# Altium integrated library Inductor 22uH.IntLib: 360 symbols (part 7 of 7)
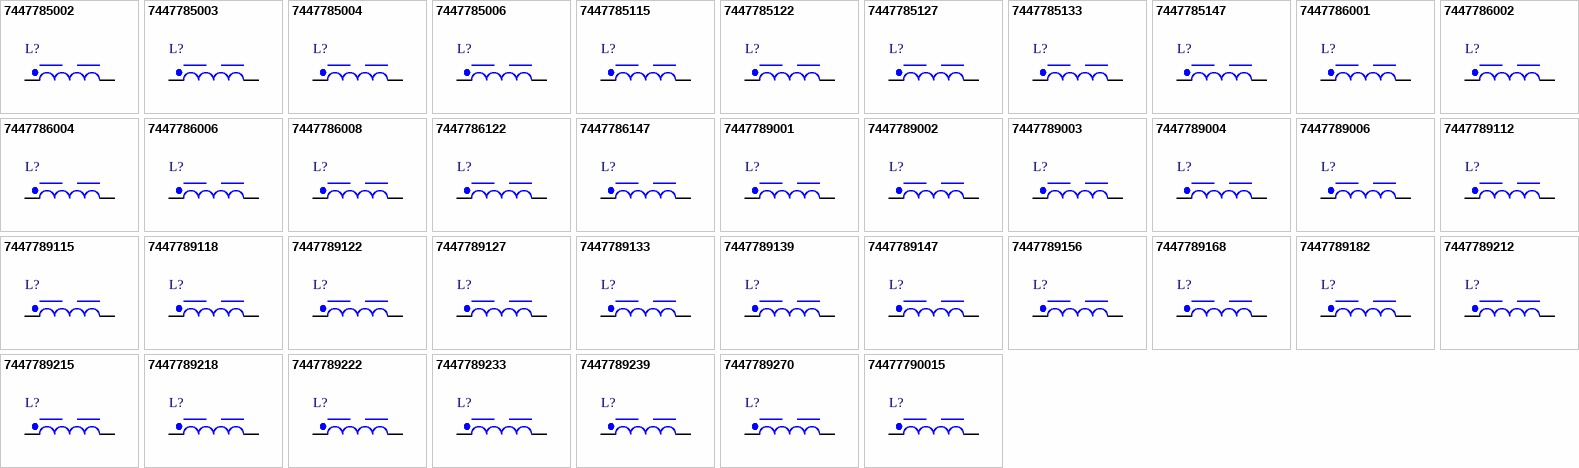
[diagram p14: symbols 7447785002 to 74477790015]

## 7447785147
designator L?, comment 47 μH, 0.85 A  (value not drawn)
WE-PD SMT Power Inductor, size 6033R, 47 μH, 0.85 A, 600 mΩ; Manufacturer Part Number: 7447785147; Manufacturer: Wurth Elektronik; DC Resistance: 500 mΩ; DC Resistance Max: 600 mΩ; Inductance: 47 μH; Rated Current: 0.85 A; Saturation Current: 0.74 A; Self Resonant Frequency: 16.5 MHz; Type: Robust; Category: Power Inductors; Match Code: WE-PD; ComponentLink1Description: Website Link; ComponentLink1URL: https://www.we-online.com/redexpert/article/7447785147?ad; ComponentLink2Description: Datasheet Link; ComponentLink2URL: https://www.we-online.com/redexpert/spec/7447785147?ad; Mount: Surface Mount; Min Operating Temperature: -40 °C; Max Operating Temperature: 125 °C; Packaging: Tape and Reel; Case/Size Code: 6033R; Length: 5.9 mm; Width: 6.2 mm; Height: 3.3 mm
footprint WE-PD_6033R
simulation model 6033_7447785147_47u
pins: 1, 2

## 7447786001
designator L?, comment 1 μH, 5 A  (value not drawn)
WE-PD SMT Power Inductor, size 6050R, 1 μH, 5 A, 34 mΩ; Manufacturer Part Number: 7447786001; Manufacturer: Wurth Elektronik; DC Resistance: 28 mΩ; DC Resistance Max: 34 mΩ; Inductance: 1 μH; Rated Current: 5 A; Saturation Current: 5.5 A; Self Resonant Frequency: 180 MHz; Type: Robust; Category: Power Inductors; Match Code: WE-PD; ComponentLink1Description: Website Link; ComponentLink1URL: https://www.we-online.com/redexpert/article/7447786001?ad; ComponentLink2Description: Datasheet Link; ComponentLink2URL: https://www.we-online.com/redexpert/spec/7447786001?ad; Mount: Surface Mount; Min Operating Temperature: -40 °C; Max Operating Temperature: 125 °C; Packaging: Tape and Reel; Case/Size Code: 6050R; Length: 5.9 mm; Width: 6.2 mm; Height: 5.1 mm
footprint WE-PD_6050R
simulation model 6050_7447786001_1u
pins: 1, 2

## 7447786002
designator L?, comment 2.2 μH, 3.5 A  (value not drawn)
WE-PD SMT Power Inductor, size 6050R, 2.2 μH, 3.5 A, 49 mΩ; Manufacturer Part Number: 7447786002; Manufacturer: Wurth Elektronik; DC Resistance: 40 mΩ; DC Resistance Max: 49 mΩ; Inductance: 2.2 μH; Rated Current: 3.5 A; Saturation Current: 4 A; Self Resonant Frequency: 115 MHz; Type: Robust; Category: Power Inductors; Match Code: WE-PD; ComponentLink1Description: Website Link; ComponentLink1URL: https://www.we-online.com/redexpert/article/7447786002?ad; ComponentLink2Description: Datasheet Link; ComponentLink2URL: https://www.we-online.com/redexpert/spec/7447786002?ad; Mount: Surface Mount; Min Operating Temperature: -40 °C; Max Operating Temperature: 125 °C; Packaging: Tape and Reel; Case/Size Code: 6050R; Length: 5.9 mm; Width: 6.2 mm; Height: 5.1 mm
footprint WE-PD_6050R
simulation model 6050_7447786002_2.2u
pins: 1, 2

## 7447786004
designator L?, comment 4.7 μH, 2.8 A  (value not drawn)
WE-PD SMT Power Inductor, size 6050R, 4.7 μH, 2.8 A, 65 mΩ; Manufacturer Part Number: 7447786004; Manufacturer: Wurth Elektronik; DC Resistance: 57 mΩ; DC Resistance Max: 65 mΩ; Inductance: 4.7 μH; Rated Current: 2.8 A; Self Resonant Frequency: 60 MHz; Type: Robust; Category: Power Inductors; Match Code: WE-PD; ComponentLink1Description: Website Link; ComponentLink1URL: https://www.we-online.com/redexpert/article/7447786004?ad; ComponentLink2Description: Datasheet Link; ComponentLink2URL: https://www.we-online.com/redexpert/spec/7447786004?ad; Mount: Surface Mount; Min Operating Temperature: -40 °C; Max Operating Temperature: 125 °C; Packaging: Tape and Reel; Case/Size Code: 6050R; Length: 5.9 mm; Width: 6.2 mm; Height: 5.1 mm; Saturation Current: 2.8 A
footprint WE-PD_6050R
simulation model 6050_7447786004_4.7u
pins: 1, 2

## 7447786006
designator L?, comment 6.8 μH, 2.5 A  (value not drawn)
WE-PD SMT Power Inductor, size 6050R, 6.8 μH, 2.5 A, 75 mΩ; Manufacturer Part Number: 7447786006; Manufacturer: Wurth Elektronik; DC Resistance: 62 mΩ; DC Resistance Max: 75 mΩ; Inductance: 6.8 μH; Rated Current: 2.5 A; Saturation Current: 2.3 A; Self Resonant Frequency: 43 MHz; Type: Robust; Category: Power Inductors; Match Code: WE-PD; ComponentLink1Description: Website Link; ComponentLink1URL: https://www.we-online.com/redexpert/article/7447786006?ad; ComponentLink2Description: Datasheet Link; ComponentLink2URL: https://www.we-online.com/redexpert/spec/7447786006?ad; Mount: Surface Mount; Min Operating Temperature: -40 °C; Max Operating Temperature: 125 °C; Packaging: Tape and Reel; Case/Size Code: 6050R; Length: 5.9 mm; Width: 6.2 mm; Height: 5.1 mm
footprint WE-PD_6050R
simulation model 6050_7447786006_6.8u
pins: 1, 2

## 7447786008
designator L?, comment 8.2 μH, 2.3 A  (value not drawn)
WE-PD SMT Power Inductor, size 6050R, 8.2 μH, 2.3 A, 80 mΩ; Manufacturer Part Number: 7447786008; Manufacturer: Wurth Elektronik; DC Resistance: 66 mΩ; DC Resistance Max: 80 mΩ; Inductance: 8.2 μH; Rated Current: 2.3 A; Saturation Current: 2.1 A; Self Resonant Frequency: 40 MHz; Type: Robust; Category: Power Inductors; Match Code: WE-PD; ComponentLink1Description: Website Link; ComponentLink1URL: https://www.we-online.com/redexpert/article/7447786008?ad; ComponentLink2Description: Datasheet Link; ComponentLink2URL: https://www.we-online.com/redexpert/spec/7447786008?ad; Mount: Surface Mount; Min Operating Temperature: -40 °C; Max Operating Temperature: 125 °C; Packaging: Tape and Reel; Case/Size Code: 6050R; Length: 5.9 mm; Width: 6.2 mm; Height: 5.1 mm
footprint WE-PD_6050R
simulation model 6050_7447786008_8.2u
pins: 1, 2

## 7447786122
designator L?, comment 22 μH, 2 A  (value not drawn)
WE-PD SMT Power Inductor, size 6050R, 22 μH, 2 A, 115 mΩ; Manufacturer Part Number: 7447786122; Manufacturer: Wurth Elektronik; DC Resistance: 98 mΩ; DC Resistance Max: 115 mΩ; Inductance: 22 μH; Rated Current: 2 A; Saturation Current: 1.3 A; Self Resonant Frequency: 15 MHz; Type: Robust; Category: Power Inductors; Match Code: WE-PD; ComponentLink1Description: Website Link; ComponentLink1URL: https://www.we-online.com/redexpert/article/7447786122?ad; ComponentLink2Description: Datasheet Link; ComponentLink2URL: https://www.we-online.com/redexpert/spec/7447786122?ad; Mount: Surface Mount; Min Operating Temperature: -40 °C; Max Operating Temperature: 125 °C; Packaging: Tape and Reel; Case/Size Code: 6050R; Length: 5.9 mm; Width: 6.2 mm; Height: 5.1 mm
footprint WE-PD_6050R
simulation model 6050_7447786122_22u
pins: 1, 2

## 7447786147
designator L?, comment 47 μH, 1.4 A  (value not drawn)
WE-PD SMT Power Inductor, size 6050R, 47 μH, 1.4 A, 295 mΩ; Manufacturer Part Number: 7447786147; Manufacturer: Wurth Elektronik; DC Resistance: 260 mΩ; DC Resistance Max: 295 mΩ; Inductance: 47 μH; Rated Current: 1.4 A; Saturation Current: 0.8 A; Self Resonant Frequency: 10 MHz; Type: Robust; Category: Power Inductors; Match Code: WE-PD; ComponentLink1Description: Website Link; ComponentLink1URL: https://www.we-online.com/redexpert/article/7447786147?ad; ComponentLink2Description: Datasheet Link; ComponentLink2URL: https://www.we-online.com/redexpert/spec/7447786147?ad; Mount: Surface Mount; Min Operating Temperature: -40 °C; Max Operating Temperature: 125 °C; Packaging: Tape and Reel; Case/Size Code: 6050R; Length: 5.9 mm; Width: 6.2 mm; Height: 5.1 mm
footprint WE-PD_6050R
simulation model 6050_7447786147_47u
pins: 1, 2

## 7447789001
designator L?, comment 1 μH, 5.37 A  (value not drawn)
WE-PD SMT Power Inductor, size 7332R, 1 μH, 5.37 A, 12 mΩ; Manufacturer Part Number: 7447789001; Manufacturer: Wurth Elektronik; DC Resistance: 10 mΩ; DC Resistance Max: 12 mΩ; Inductance: 1 μH; Rated Current: 5.37 A; Saturation Current: 6.4 A; Self Resonant Frequency: 115 MHz; Type: Robust; Category: Power Inductors; Match Code: WE-PD; ComponentLink1Description: Website Link; ComponentLink1URL: https://www.we-online.com/redexpert/article/7447789001?ad; ComponentLink2Description: Datasheet Link; ComponentLink2URL: https://www.we-online.com/redexpert/spec/7447789001?ad; Mount: Surface Mount; Min Operating Temperature: -40 °C; Max Operating Temperature: 125 °C; Packaging: Tape and Reel; Case/Size Code: 7332R; Length: 7.3 mm; Width: 7.3 mm; Height: 3.2 mm
footprint WE-PD_7332R
simulation model 7332_7447789001_1u
pins: 1, 2

## 7447789002
designator L?, comment 2.2 μH, 4.02 A  (value not drawn)
WE-PD SMT Power Inductor, size 7332R, 2.2 μH, 4.02 A, 25 mΩ; Manufacturer Part Number: 7447789002; Manufacturer: Wurth Elektronik; DC Resistance: 20 mΩ; DC Resistance Max: 25 mΩ; Inductance: 2.2 μH; Rated Current: 4.02 A; Saturation Current: 4.8 A; Self Resonant Frequency: 67 MHz; Type: Robust; Category: Power Inductors; Match Code: WE-PD; ComponentLink1Description: Website Link; ComponentLink1URL: https://www.we-online.com/redexpert/article/7447789002?ad; ComponentLink2Description: Datasheet Link; ComponentLink2URL: https://www.we-online.com/redexpert/spec/7447789002?ad; Mount: Surface Mount; Min Operating Temperature: -40 °C; Max Operating Temperature: 125 °C; Packaging: Tape and Reel; Case/Size Code: 7332R; Length: 7.3 mm; Width: 7.3 mm; Height: 3.2 mm
footprint WE-PD_7332R
simulation model 7332_7447789002_2.2u
pins: 1, 2

## 7447789003
designator L?, comment 3.3 μH, 3.42 A  (value not drawn)
WE-PD SMT Power Inductor, size 7332R, 3.3 μH, 3.42 A, 30 mΩ; Manufacturer Part Number: 7447789003; Manufacturer: Wurth Elektronik; DC Resistance: 24 mΩ; DC Resistance Max: 30 mΩ; Inductance: 3.3 μH; Rated Current: 3.42 A; Saturation Current: 4.2 A; Self Resonant Frequency: 61 MHz; Type: Robust; Category: Power Inductors; Match Code: WE-PD; ComponentLink1Description: Website Link; ComponentLink1URL: https://www.we-online.com/redexpert/article/7447789003?ad; ComponentLink2Description: Datasheet Link; ComponentLink2URL: https://www.we-online.com/redexpert/spec/7447789003?ad; Mount: Surface Mount; Min Operating Temperature: -40 °C; Max Operating Temperature: 125 °C; Packaging: Tape and Reel; Case/Size Code: 7332R; Length: 7.3 mm; Width: 7.3 mm; Height: 3.2 mm
footprint WE-PD_7332R
simulation model 7332_7447789003_3.3u
pins: 1, 2

## 7447789004
designator L?, comment 4.7 μH, 2.9 A  (value not drawn)
WE-PD SMT Power Inductor, size 7332R, 4.7 μH, 2.9 A, 39 mΩ; Manufacturer Part Number: 7447789004; Manufacturer: Wurth Elektronik; DC Resistance: 33 mΩ; DC Resistance Max: 39 mΩ; Inductance: 4.7 μH; Rated Current: 2.9 A; Saturation Current: 3.9 A; Self Resonant Frequency: 45 MHz; Type: Robust; Category: Power Inductors; Match Code: WE-PD; ComponentLink1Description: Website Link; ComponentLink1URL: https://www.we-online.com/redexpert/article/7447789004?ad; ComponentLink2Description: Datasheet Link; ComponentLink2URL: https://www.we-online.com/redexpert/spec/7447789004?ad; Mount: Surface Mount; Min Operating Temperature: -40 °C; Max Operating Temperature: 125 °C; Packaging: Tape and Reel; Case/Size Code: 7332R; Length: 7.3 mm; Width: 7.3 mm; Height: 3.2 mm
footprint WE-PD_7332R
simulation model 7332_7447789004_4.7u
pins: 1, 2

## 7447789006
designator L?, comment 6.8 μH, 2.5 A  (value not drawn)
WE-PD SMT Power Inductor, size 7332R, 6.8 μH, 2.5 A, 50 mΩ; Manufacturer Part Number: 7447789006; Manufacturer: Wurth Elektronik; DC Resistance: 42 mΩ; DC Resistance Max: 50 mΩ; Inductance: 6.8 μH; Rated Current: 2.5 A; Saturation Current: 2.75 A; Self Resonant Frequency: 38 MHz; Type: Robust; Category: Power Inductors; Match Code: WE-PD; ComponentLink1Description: Website Link; ComponentLink1URL: https://www.we-online.com/redexpert/article/7447789006?ad; ComponentLink2Description: Datasheet Link; ComponentLink2URL: https://www.we-online.com/redexpert/spec/7447789006?ad; Mount: Surface Mount; Min Operating Temperature: -40 °C; Max Operating Temperature: 125 °C; Packaging: Tape and Reel; Case/Size Code: 7332R; Length: 7.3 mm; Width: 7.3 mm; Height: 3.2 mm
footprint WE-PD_7332R
simulation model 7332_7447789006_6.8u
pins: 1, 2

## 7447789112
designator L?, comment 12 μH, 1.73 A  (value not drawn)
WE-PD SMT Power Inductor, size 7332R, 12 μH, 1.73 A, 98 mΩ; Manufacturer Part Number: 7447789112; Manufacturer: Wurth Elektronik; DC Resistance: 76 mΩ; DC Resistance Max: 98 mΩ; Inductance: 12 μH; Rated Current: 1.73 A; Saturation Current: 1.9 A; Self Resonant Frequency: 27 MHz; Type: Robust; Category: Power Inductors; Match Code: WE-PD; ComponentLink1Description: Website Link; ComponentLink1URL: https://www.we-online.com/redexpert/article/7447789112?ad; ComponentLink2Description: Datasheet Link; ComponentLink2URL: https://www.we-online.com/redexpert/spec/7447789112?ad; Mount: Surface Mount; Min Operating Temperature: -40 °C; Max Operating Temperature: 125 °C; Packaging: Tape and Reel; Case/Size Code: 7332R; Length: 7.3 mm; Width: 7.3 mm; Height: 3.2 mm
footprint WE-PD_7332R
simulation model 7332_7447789112_12u
pins: 1, 2

## 7447789115
designator L?, comment 15 μH, 1.51 A  (value not drawn)
WE-PD SMT Power Inductor, size 7332R, 15 μH, 1.51 A, 130 mΩ; Manufacturer Part Number: 7447789115; Manufacturer: Wurth Elektronik; DC Resistance: 100 mΩ; DC Resistance Max: 130 mΩ; Inductance: 15 μH; Rated Current: 1.51 A; Saturation Current: 1.75 A; Self Resonant Frequency: 26 MHz; Type: Robust; Category: Power Inductors; Match Code: WE-PD; ComponentLink1Description: Website Link; ComponentLink1URL: https://www.we-online.com/redexpert/article/7447789115?ad; ComponentLink2Description: Datasheet Link; ComponentLink2URL: https://www.we-online.com/redexpert/spec/7447789115?ad; Mount: Surface Mount; Min Operating Temperature: -40 °C; Max Operating Temperature: 125 °C; Packaging: Tape and Reel; Case/Size Code: 7332R; Length: 7.3 mm; Width: 7.3 mm; Height: 3.2 mm
footprint WE-PD_7332R
simulation model 7332_7447789115_15u
pins: 1, 2

## 7447789118
designator L?, comment 18 μH, 1.41 A  (value not drawn)
WE-PD SMT Power Inductor, size 7332R, 18 μH, 1.41 A, 140 mΩ; Manufacturer Part Number: 7447789118; Manufacturer: Wurth Elektronik; DC Resistance: 114 mΩ; DC Resistance Max: 140 mΩ; Inductance: 18 μH; Rated Current: 1.41 A; Saturation Current: 1.7 A; Self Resonant Frequency: 24 MHz; Type: Robust; Category: Power Inductors; Match Code: WE-PD; ComponentLink1Description: Website Link; ComponentLink1URL: https://www.we-online.com/redexpert/article/7447789118?ad; ComponentLink2Description: Datasheet Link; ComponentLink2URL: https://www.we-online.com/redexpert/spec/7447789118?ad; Mount: Surface Mount; Min Operating Temperature: -40 °C; Max Operating Temperature: 125 °C; Packaging: Tape and Reel; Case/Size Code: 7332R; Length: 7.3 mm; Width: 7.3 mm; Height: 3.2 mm
footprint WE-PD_7332R
simulation model 7332_7447789118_18u
pins: 1, 2

## 7447789122
designator L?, comment 22 μH, 1.38 A  (value not drawn)
WE-PD SMT Power Inductor, size 7332R, 22 μH, 1.38 A, 190 mΩ; Manufacturer Part Number: 7447789122; Manufacturer: Wurth Elektronik; DC Resistance: 119 mΩ; DC Resistance Max: 190 mΩ; Inductance: 22 μH; Rated Current: 1.38 A; Saturation Current: 1.4 A; Self Resonant Frequency: 20 MHz; Type: Robust; Category: Power Inductors; Match Code: WE-PD; ComponentLink1Description: Website Link; ComponentLink1URL: https://www.we-online.com/redexpert/article/7447789122?ad; ComponentLink2Description: Datasheet Link; ComponentLink2URL: https://www.we-online.com/redexpert/spec/7447789122?ad; Mount: Surface Mount; Min Operating Temperature: -40 °C; Max Operating Temperature: 125 °C; Packaging: Tape and Reel; Case/Size Code: 7332R; Length: 7.3 mm; Width: 7.3 mm; Height: 3.2 mm
footprint WE-PD_7332R
simulation model 7332_7447789122_22u
pins: 1, 2

## 7447789127
designator L?, comment 27 μH, 1.27 A  (value not drawn)
WE-PD SMT Power Inductor, size 7332R, 27 μH, 1.27 A, 210 mΩ; Manufacturer Part Number: 7447789127; Manufacturer: Wurth Elektronik; DC Resistance: 130 mΩ; DC Resistance Max: 210 mΩ; Inductance: 27 μH; Rated Current: 1.27 A; Saturation Current: 1.35 A; Self Resonant Frequency: 18 MHz; Type: Robust; Category: Power Inductors; Match Code: WE-PD; ComponentLink1Description: Website Link; ComponentLink1URL: https://www.we-online.com/redexpert/article/7447789127?ad; ComponentLink2Description: Datasheet Link; ComponentLink2URL: https://www.we-online.com/redexpert/spec/7447789127?ad; Mount: Surface Mount; Min Operating Temperature: -40 °C; Max Operating Temperature: 125 °C; Packaging: Tape and Reel; Case/Size Code: 7332R; Length: 7.3 mm; Width: 7.3 mm; Height: 3.2 mm
footprint WE-PD_7332R
simulation model 7332_7447789127_27u
pins: 1, 2

## 7447789133
designator L?, comment 33 μH, 1.22 A  (value not drawn)
WE-PD SMT Power Inductor, size 7332R, 33 μH, 1.22 A, 240 mΩ; Manufacturer Part Number: 7447789133; Manufacturer: Wurth Elektronik; DC Resistance: 153 mΩ; DC Resistance Max: 240 mΩ; Inductance: 33 μH; Rated Current: 1.22 A; Saturation Current: 1.15 A; Self Resonant Frequency: 16 MHz; Type: Robust; Category: Power Inductors; Match Code: WE-PD; ComponentLink1Description: Website Link; ComponentLink1URL: https://www.we-online.com/redexpert/article/7447789133?ad; ComponentLink2Description: Datasheet Link; ComponentLink2URL: https://www.we-online.com/redexpert/spec/7447789133?ad; Mount: Surface Mount; Min Operating Temperature: -40 °C; Max Operating Temperature: 125 °C; Packaging: Tape and Reel; Case/Size Code: 7332R; Length: 7.3 mm; Width: 7.3 mm; Height: 3.2 mm
footprint WE-PD_7332R
simulation model 7332_7447789133_33u
pins: 1, 2

## 7447789139
designator L?, comment 39 μH, 1.03 A  (value not drawn)
WE-PD SMT Power Inductor, size 7332R, 39 μH, 1.03 A, 320 mΩ; Manufacturer Part Number: 7447789139; Manufacturer: Wurth Elektronik; DC Resistance: 209 mΩ; DC Resistance Max: 320 mΩ; Inductance: 39 μH; Rated Current: 1.03 A; Saturation Current: 1.1 A; Self Resonant Frequency: 14 MHz; Type: Robust; Category: Power Inductors; Match Code: WE-PD; ComponentLink1Description: Website Link; ComponentLink1URL: https://www.we-online.com/redexpert/article/7447789139?ad; ComponentLink2Description: Datasheet Link; ComponentLink2URL: https://www.we-online.com/redexpert/spec/7447789139?ad; Mount: Surface Mount; Min Operating Temperature: -40 °C; Max Operating Temperature: 125 °C; Packaging: Tape and Reel; Case/Size Code: 7332R; Length: 7.3 mm; Width: 7.3 mm; Height: 3.2 mm
footprint WE-PD_7332R
simulation model 7332_7447789139_39u
pins: 1, 2

## 7447789147
designator L?, comment 47 μH, 0.85 A  (value not drawn)
WE-PD SMT Power Inductor, size 7332R, 47 μH, 0.85 A, 360 mΩ; Manufacturer Part Number: 7447789147; Manufacturer: Wurth Elektronik; DC Resistance: 315 mΩ; DC Resistance Max: 360 mΩ; Inductance: 47 μH; Rated Current: 0.85 A; Saturation Current: 1 A; Self Resonant Frequency: 13.5 MHz; Type: Robust; Category: Power Inductors; Match Code: WE-PD; ComponentLink1Description: Website Link; ComponentLink1URL: https://www.we-online.com/redexpert/article/7447789147?ad; ComponentLink2Description: Datasheet Link; ComponentLink2URL: https://www.we-online.com/redexpert/spec/7447789147?ad; Mount: Surface Mount; Min Operating Temperature: -40 °C; Max Operating Temperature: 125 °C; Packaging: Tape and Reel; Case/Size Code: 7332R; Length: 7.3 mm; Width: 7.3 mm; Height: 3.2 mm
footprint WE-PD_7332R
simulation model 7332_7447789147_47u
pins: 1, 2

## 7447789156
designator L?, comment 56 μH, 0.84 A  (value not drawn)
WE-PD SMT Power Inductor, size 7332R, 56 μH, 0.84 A, 470 mΩ; Manufacturer Part Number: 7447789156; Manufacturer: Wurth Elektronik; DC Resistance: 335 mΩ; DC Resistance Max: 470 mΩ; Inductance: 56 μH; Rated Current: 0.84 A; Saturation Current: 0.9 A; Self Resonant Frequency: 12.5 MHz; Type: Robust; Category: Power Inductors; Match Code: WE-PD; ComponentLink1Description: Website Link; ComponentLink1URL: https://www.we-online.com/redexpert/article/7447789156?ad; ComponentLink2Description: Datasheet Link; ComponentLink2URL: https://www.we-online.com/redexpert/spec/7447789156?ad; Mount: Surface Mount; Min Operating Temperature: -40 °C; Max Operating Temperature: 125 °C; Packaging: Tape and Reel; Case/Size Code: 7332R; Length: 7.3 mm; Width: 7.3 mm; Height: 3.2 mm
footprint WE-PD_7332R
simulation model 7332_7447789156_56u
pins: 1, 2

## 7447789168
designator L?, comment 68 μH, 0.74 A  (value not drawn)
WE-PD SMT Power Inductor, size 7332R, 68 μH, 0.74 A, 520 mΩ; Manufacturer Part Number: 7447789168; Manufacturer: Wurth Elektronik; DC Resistance: 420 mΩ; DC Resistance Max: 520 mΩ; Inductance: 68 μH; Rated Current: 0.74 A; Saturation Current: 0.84 A; Self Resonant Frequency: 11.5 MHz; Type: Robust; Category: Power Inductors; Match Code: WE-PD; ComponentLink1Description: Website Link; ComponentLink1URL: https://www.we-online.com/redexpert/article/7447789168?ad; ComponentLink2Description: Datasheet Link; ComponentLink2URL: https://www.we-online.com/redexpert/spec/7447789168?ad; Mount: Surface Mount; Min Operating Temperature: -40 °C; Max Operating Temperature: 125 °C; Packaging: Tape and Reel; Case/Size Code: 7332R; Length: 7.3 mm; Width: 7.3 mm; Height: 3.2 mm
footprint WE-PD_7332R
simulation model 7332_7447789168_68u
pins: 1, 2

## 7447789182
designator L?, comment 82 μH, 0.69 A  (value not drawn)
WE-PD SMT Power Inductor, size 7332R, 82 μH, 0.69 A, 690 mΩ; Manufacturer Part Number: 7447789182; Manufacturer: Wurth Elektronik; DC Resistance: 470 mΩ; DC Resistance Max: 690 mΩ; Inductance: 82 μH; Rated Current: 0.69 A; Saturation Current: 0.78 A; Self Resonant Frequency: 9.8 MHz; Type: Robust; Category: Power Inductors; Match Code: WE-PD; ComponentLink1Description: Website Link; ComponentLink1URL: https://www.we-online.com/redexpert/article/7447789182?ad; ComponentLink2Description: Datasheet Link; ComponentLink2URL: https://www.we-online.com/redexpert/spec/7447789182?ad; Mount: Surface Mount; Min Operating Temperature: -40 °C; Max Operating Temperature: 125 °C; Packaging: Tape and Reel; Case/Size Code: 7332R; Length: 7.3 mm; Width: 7.3 mm; Height: 3.2 mm
footprint WE-PD_7332R
simulation model 7332_7447789182_82u
pins: 1, 2

## 7447789212
designator L?, comment 120 μH, 0.6 A  (value not drawn)
WE-PD SMT Power Inductor, size 7332R, 120 μH, 0.6 A, 890 mΩ; Manufacturer Part Number: 7447789212; Manufacturer: Wurth Elektronik; DC Resistance: 563 mΩ; DC Resistance Max: 890 mΩ; Inductance: 120 μH; Rated Current: 0.6 A; Saturation Current: 0.68 A; Self Resonant Frequency: 8.5 MHz; Type: Robust; Category: Power Inductors; Match Code: WE-PD; ComponentLink1Description: Website Link; ComponentLink1URL: https://www.we-online.com/redexpert/article/7447789212?ad; ComponentLink2Description: Datasheet Link; ComponentLink2URL: https://www.we-online.com/redexpert/spec/7447789212?ad; Mount: Surface Mount; Min Operating Temperature: -40 °C; Max Operating Temperature: 125 °C; Packaging: Tape and Reel; Case/Size Code: 7332R; Length: 7.3 mm; Width: 7.3 mm; Height: 3.2 mm
footprint WE-PD_7332R
simulation model 7332_7447789212_120u
pins: 1, 2

## 7447789215
designator L?, comment 150 μH, 0.56 A  (value not drawn)
WE-PD SMT Power Inductor, size 7332R, 150 μH, 0.56 A, 1270 mΩ; Manufacturer Part Number: 7447789215; Manufacturer: Wurth Elektronik; DC Resistance: 720 mΩ; DC Resistance Max: 1270 mΩ; Inductance: 150 μH; Rated Current: 0.56 A; Saturation Current: 0.53 A; Self Resonant Frequency: 7.2 MHz; Type: Robust; Category: Power Inductors; Match Code: WE-PD; ComponentLink1Description: Website Link; ComponentLink1URL: https://www.we-online.com/redexpert/article/7447789215?ad; ComponentLink2Description: Datasheet Link; ComponentLink2URL: https://www.we-online.com/redexpert/spec/7447789215?ad; Mount: Surface Mount; Min Operating Temperature: -40 °C; Max Operating Temperature: 125 °C; Packaging: Tape and Reel; Case/Size Code: 7332R; Length: 7.3 mm; Width: 7.3 mm; Height: 3.2 mm
footprint WE-PD_7332R
simulation model 7332_7447789215_150u
pins: 1, 2

## 7447789218
designator L?, comment 180 μH, 0.49 A  (value not drawn)
WE-PD SMT Power Inductor, size 7332R, 180 μH, 0.49 A, 1450 mΩ; Manufacturer Part Number: 7447789218; Manufacturer: Wurth Elektronik; DC Resistance: 960 mΩ; DC Resistance Max: 1450 mΩ; Inductance: 180 μH; Rated Current: 0.49 A; Saturation Current: 0.5 A; Self Resonant Frequency: 7 MHz; Type: Robust; Category: Power Inductors; Match Code: WE-PD; ComponentLink1Description: Website Link; ComponentLink1URL: https://www.we-online.com/redexpert/article/7447789218?ad; ComponentLink2Description: Datasheet Link; ComponentLink2URL: https://www.we-online.com/redexpert/spec/7447789218?ad; Mount: Surface Mount; Min Operating Temperature: -40 °C; Max Operating Temperature: 125 °C; Packaging: Tape and Reel; Case/Size Code: 7332R; Length: 7.3 mm; Width: 7.3 mm; Height: 3.2 mm
footprint WE-PD_7332R
simulation model 7332_7447789218_180u
pins: 1, 2

## 7447789222
designator L?, comment 220 μH, 0.43 A  (value not drawn)
WE-PD SMT Power Inductor, size 7332R, 220 μH, 0.43 A, 1650 mΩ; Manufacturer Part Number: 7447789222; Manufacturer: Wurth Elektronik; DC Resistance: 1350 mΩ; DC Resistance Max: 1650 mΩ; Inductance: 220 μH; Rated Current: 0.43 A; Saturation Current: 0.42 A; Self Resonant Frequency: 6 MHz; Type: Robust; Category: Power Inductors; Match Code: WE-PD; ComponentLink1Description: Website Link; ComponentLink1URL: https://www.we-online.com/redexpert/article/7447789222?ad; ComponentLink2Description: Datasheet Link; ComponentLink2URL: https://www.we-online.com/redexpert/spec/7447789222?ad; Mount: Surface Mount; Min Operating Temperature: -40 °C; Max Operating Temperature: 125 °C; Packaging: Tape and Reel; Case/Size Code: 7332R; Length: 7.3 mm; Width: 7.3 mm; Height: 3.2 mm
footprint WE-PD_7332R
simulation model 7332_7447789222_220u
pins: 1, 2

## 7447789233
designator L?, comment 330 μH, 0.32 A  (value not drawn)
WE-PD SMT Power Inductor, size 7332R, 330 μH, 0.32 A, 2620 mΩ; Manufacturer Part Number: 7447789233; Manufacturer: Wurth Elektronik; DC Resistance: 2280 mΩ; DC Resistance Max: 2620 mΩ; Inductance: 330 μH; Rated Current: 0.32 A; Saturation Current: 0.35 A; Self Resonant Frequency: 4.8 MHz; Type: Robust; Category: Power Inductors; Match Code: WE-PD; ComponentLink1Description: Website Link; ComponentLink1URL: https://www.we-online.com/redexpert/article/7447789233?ad; ComponentLink2Description: Datasheet Link; ComponentLink2URL: https://www.we-online.com/redexpert/spec/7447789233?ad; Mount: Surface Mount; Min Operating Temperature: -40 °C; Max Operating Temperature: 125 °C; Packaging: Tape and Reel; Case/Size Code: 7332R; Length: 7.3 mm; Width: 7.3 mm; Height: 3.2 mm
footprint WE-PD_7332R
simulation model 7332_7447789233_330u
pins: 1, 2

## 7447789239
designator L?, comment 390 μH, 0.3 A  (value not drawn)
WE-PD SMT Power Inductor, size 7332R, 390 μH, 0.3 A, 2940 mΩ; Manufacturer Part Number: 7447789239; Manufacturer: Wurth Elektronik; DC Resistance: 2490 mΩ; DC Resistance Max: 2940 mΩ; Inductance: 390 μH; Rated Current: 0.3 A; Saturation Current: 0.34 A; Self Resonant Frequency: 4.4 MHz; Type: Robust; Category: Power Inductors; Match Code: WE-PD; ComponentLink1Description: Website Link; ComponentLink1URL: https://www.we-online.com/redexpert/article/7447789239?ad; ComponentLink2Description: Datasheet Link; ComponentLink2URL: https://www.we-online.com/redexpert/spec/7447789239?ad; Mount: Surface Mount; Min Operating Temperature: -40 °C; Max Operating Temperature: 125 °C; Packaging: Tape and Reel; Case/Size Code: 7332R; Length: 7.3 mm; Width: 7.3 mm; Height: 3.2 mm
footprint WE-PD_7332R
simulation model 7332_7447789239_390u
pins: 1, 2

## 7447789270
designator L?, comment 270 μH, 0.4 A  (value not drawn)
WE-PD SMT Power Inductor, size 7332R, 270 μH, 0.4 A, 2310 mΩ; Manufacturer Part Number: 7447789270; Manufacturer: Wurth Elektronik; DC Resistance: 1470 mΩ; DC Resistance Max: 2310 mΩ; Inductance: 270 μH; Rated Current: 0.4 A; Saturation Current: 0.39 A; Self Resonant Frequency: 5.2 MHz; Type: Robust; Category: Power Inductors; Match Code: WE-PD; ComponentLink1Description: Website Link; ComponentLink1URL: https://www.we-online.com/redexpert/article/7447789270?ad; ComponentLink2Description: Datasheet Link; ComponentLink2URL: https://www.we-online.com/redexpert/spec/7447789270?ad; Mount: Surface Mount; Min Operating Temperature: -40 °C; Max Operating Temperature: 125 °C; Packaging: Tape and Reel; Case/Size Code: 7332R; Length: 7.3 mm; Width: 7.3 mm; Height: 3.2 mm
footprint WE-PD_7332R
simulation model 7332_7447789270_270u
pins: 1, 2

## 74477790015
designator L?, comment 1.5 μH, 4.3 A  (value not drawn)
WE-PD SMT Power Inductor, size 7345R, 1.5 μH, 4.3 A, 18 mΩ; Manufacturer Part Number: 74477790015; Manufacturer: Wurth Elektronik; DC Resistance: 15 mΩ; DC Resistance Max: 18 mΩ; Inductance: 1.5 μH; Rated Current: 4.3 A; Saturation Current: 7.3 A; Self Resonant Frequency: 75 MHz; Type: Robust; Category: Power Inductors; Match Code: WE-PD; ComponentLink1Description: Website Link; ComponentLink1URL: https://www.we-online.com/redexpert/article/74477790015?ad; ComponentLink2Description: Datasheet Link; ComponentLink2URL: https://www.we-online.com/redexpert/spec/74477790015?ad; Mount: Surface Mount; Min Operating Temperature: -40 °C; Max Operating Temperature: 125 °C; Packaging: Tape and Reel; Case/Size Code: 7345R; Length: 7.3 mm; Width: 7.3 mm; Height: 4.5 mm
footprint WE-PD_7345R
simulation model 7345_74477790015_1.5u
pins: 1, 2